# Altium schematic symbol library R82CC4470Z330J.SchLib: 1 symbol
Pins are listed as number, name and electrical type; pins without a type are passive.

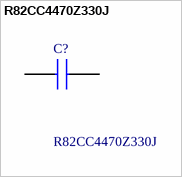
[diagram p0: symbol R82CC4470Z330J]

## R82CC4470Z330J
designator C?
R82, Film, Metallized Polyester, Automotive Grade, 4.7 uF, 5%, 30 VAC, 50 VDC, 105C, -55C, 85C, 0.8 % , 212.8 MOhms, 25 V/us, 7000 pH, 1.333 g, 7.2mm, 13mm, 7.2mm, Lead Spacing = 5mm, 750; Manufacturer_Name: KEMET; Geometry.Height: 13.1mm; Mouser Part Number: 80-R82CC4470Z330J; Mouser Price/Stock: https://www.mouser.co.uk/ProductDetail/KEMET/R82CC4470Z330J?qs=Jv4FAWB%252B0HZ5VQmK5HF3SA%3D%3D; Manufacturer_Part_Number: R82CC4470Z330J; Datasheet Link: https://content.kemet.com/datasheets/KEM_F3101_R82.pdf
footprint R82CC4470Z330J
pins: 1, 2